# Altium schematic symbol library XPSM82866AA0SRDJR.SchLib: 1 symbol
Pins are listed as number, name and electrical type; pins without a type are passive.

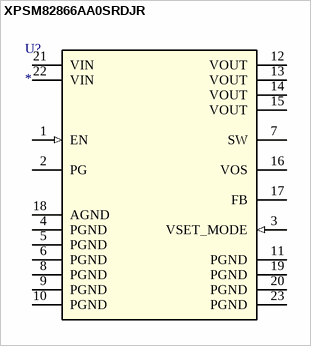
[diagram p0: symbol XPSM82866AA0SRDJR]

## XPSM82866AA0SRDJR
designator U?
No Description Available; Mfr_Name: Texas Instruments; TYPE: TYPE; RefDes: RefDes
footprint RDJ0023A-MFG
pins: 1 EN (in), 2 PG (oc), 3 VSET_MODE (in), 4 PGND (power), 5 PGND (power), 6 PGND (power), 7 SW, 8 PGND (power), 9 PGND (power), 10 PGND (power), 11 PGND (power), 12 VOUT, 13 VOUT, 14 VOUT, 15 VOUT, 16 VOS, 17 FB, 18 AGND (power), 19 PGND (power), 20 PGND (power), 21 VIN (power), 22 VIN (power), 23 PGND (power)